# EAGLE library part VHN5019 (library VHN5019)
Operating voltage: 5.5 – 24 V1 Output current: 12 A continuous (30 maximum) 3V-compatible inputs PWM operation up to 20 kHz, which is ultrasonic and allows for quieter motor operation Current sense output proportional to motor current (approx. 140 mV/A) Motor indicator LEDs (indicates what the outputs are doing even when no motor is connected) Robust: Reverse-voltage protection Can survive input voltages up to 41 V Undervoltage and overvoltage shutdown High-side and low-side thermal shutdown Short-to-ground and short-to-Vcc protection
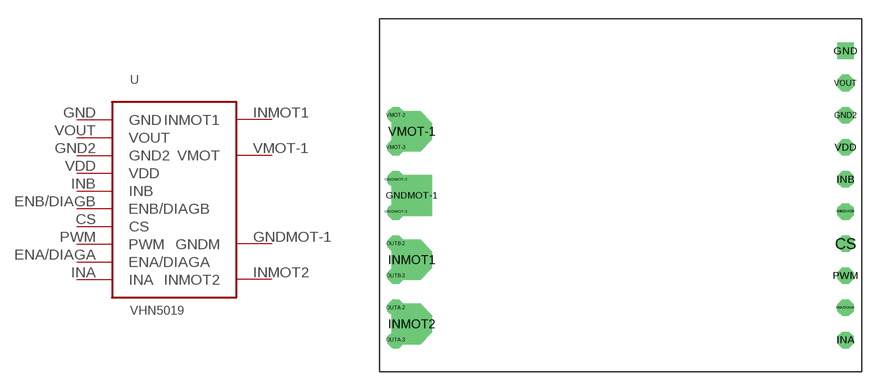
[diagram p0: symbol with the pads of MOTOR-SHIELD; footprint MOTOR-SHIELD]

Designator prefix -

## VHN5019 (MOTOR: motor)  [MOTOR-SHIELD]
CS  CS  out
ENA/DIAGA  ENA/DIAGA
ENB/DIAGB  ENB/DIAGB
GND  GND  sup
GND2  GND2  sup
GNDMOT-1  GNDM  sup
INA  INA  in
INB  INB  in
INMOT1  INMOT1  sup
INMOT2  INMOT2  sup
PWM  PWM  in
VDD  VDD  sup
VMOT-1  VMOT  sup
VOUT  VOUT  sup

## Footprint MOTOR-SHIELD (pad centres in mm)
Motorshield Hbridge
drill 0.8 octagon: CS 29.21,-5.08; ENA/DIAGA 29.21,-10.16; ENB/DIAGB 29.21,-2.54; GND2 29.21,5.08; GNDMOT-2 -6.35,0; GNDMOT-3 -6.35,-2.54; INA 29.21,-12.7; INB 29.21,0; OUTA-2 -6.35,-10.16; OUTA-3 -6.35,-12.7; OUTB-2 -6.35,-5.08; OUTB-3 -6.35,-7.62; PWM 29.21,-7.62; VDD 29.21,2.54; VMOT-2 -6.35,5.08; VMOT-3 -6.35,2.54; VOUT 29.21,7.62
drill 0.8 square: GND 29.21,10.16
drill 2.2 square: GNDMOT-1 -5.08,-1.27
drill 2.2 octagon: INMOT1 -5.08,-6.35; INMOT2 -5.08,-11.43; VMOT-1 -5.08,3.81